# Altium footprint library USB_mini.PcbLib: 1 footprints
Each footprint in its own frame and in the unit in brackets; x right, y up, seen from the top. Pads: shape width x height; smd on the part's side, far side on the other; paste and mask are expansions set on the pad; w line width, h text height; cw(c..) or ccw(c..) is an arc to the next point about the centre after c.
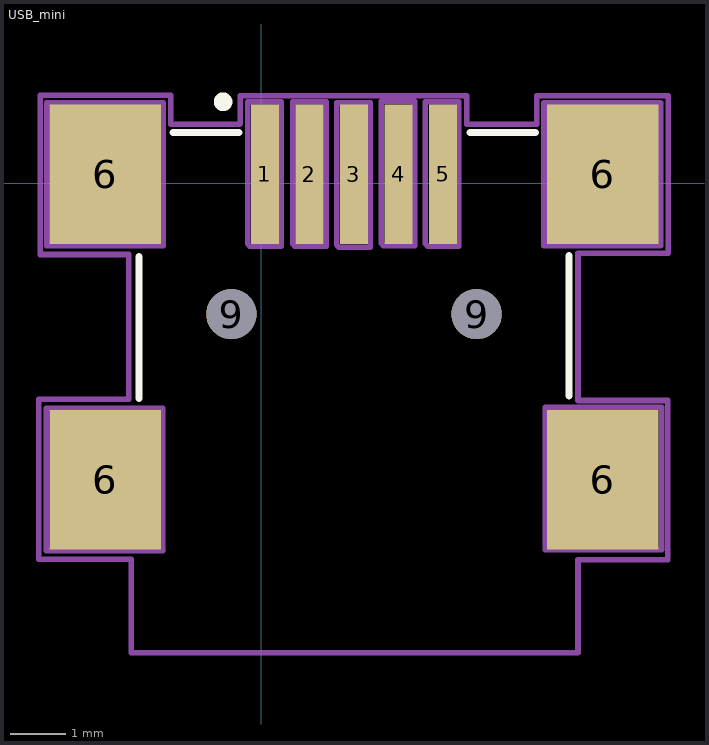
[diagram p0: the footprint, top view; thin cyan lines are the x and y axes]

## USB_mini [mm]
pads (11):
  rect 0.5x2.5 smd: 1(0.06,0.16) 2(0.86,0.16) 3(1.66,0.16) 4(2.46,0.16) 5(3.26,0.16)
  rect 2x2.5 smd: 6(-2.8,-5.32) 6(-2.8,0.16) 6(6.12,-5.32) 6(6.12,0.16)
  round 0.9 hole 0.9: 9(-0.54,-2.35) 9(3.86,-2.35)
Top Overlay:
  circle w0.254: c-0.69,1.46 r0.04
  lines w0.127: -2.2,-3.86 -2.2,-1.32 ; -1.59,0.91 -0.4,0.91 ; 3.74,0.91 4.92,0.91 ; 5.52,-3.82 5.52,-1.3
Mechanical 5:
  lines w0.1: -3.86,-6.6 -3.86,-4.24 -3.86,-4.04 -1.77,-4.04 -1.77,-6.6 -3.86,-6.6 ; -3.85,-1.12 -3.85,1.24 -3.85,1.44 -1.76,1.44 -1.76,-1.12 -3.85,-1.12 ; -0.25,-1.09 -0.25,1.46 0.35,1.46 0.35,-1.13 -0.21,-1.13 -0.25,-1.09 ; 0.56,-1.09 0.56,1.46 1.16,1.46 1.16,-1.13 0.6,-1.13 0.56,-1.09 ; 1.35,-1.11 1.35,1.44 1.95,1.44 1.95,-1.15 1.39,-1.15 1.35,-1.11 ; 2.15,-1.08 2.15,1.47 2.75,1.47 2.75,-1.12 2.19,-1.12 2.15,-1.08 ; 2.94,-1.09 2.94,1.46 3.54,1.46 3.54,-1.13 2.98,-1.13 2.94,-1.09 ; 5.07,-1.12 5.07,1.24 5.07,1.44 7.16,1.44 7.16,-1.12 5.07,-1.12 ; 5.09,-6.58 5.09,-4.22 5.09,-4.02 7.18,-4.02 7.18,-6.58 5.09,-6.58
Mechanical 7:
  lines w0.1: -4,-6.75 -4,-3.88 -2.38,-3.88 -2.38,-1.28 -3.97,-1.28 -3.97,1.58 -1.63,1.58 -1.63,1.06 -0.39,1.06 -0.38,1.07 -0.38,1.57 3.68,1.57 3.68,1.06 4.94,1.06 4.94,1.57 7.3,1.57 7.3,-1.26 5.68,-1.26 5.68,-3.9 7.29,-3.9 7.29,-6.76 5.68,-6.76 5.68,-8.43 -2.34,-8.43 -2.34,-6.75 -4,-6.75
Mechanical 9:
  text "'.Designator'" at -3.64,-3.714 h1
3D body "CUI_UJ2-MBH-1-SMT.step": height 3.9, standoff -1, extent -3.17,-8.29 6.49,1.11
3D body: height 1.04, standoff 0, extent -4,-8.43 7.3,1.58